# EAGLE library part MAX13237EETE (library microfloat)
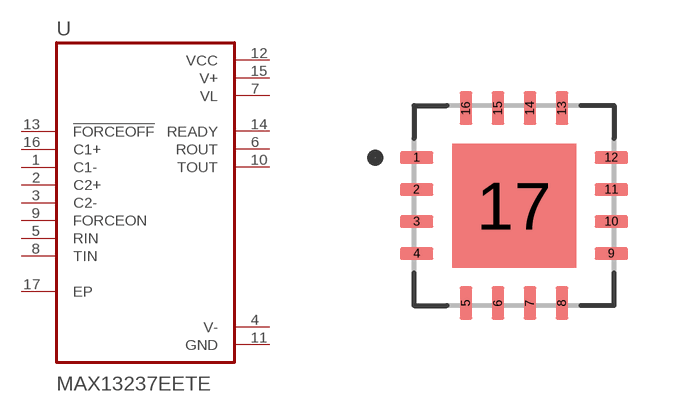
[diagram p13: symbol with the pads of QFN80P500X500X80-17N; footprint QFN80P500X500X80-17N]

Designator prefix U

## MAX13237EETE (DESCRIPTION: 1/1 Transceiver Full RS232 16-TQFN (5x5); DIGI-KEY_PART_NUMBER: MAX13237EETE+TTR-ND; MF: Maxim Integrated; MP: MAX13237EETE; PACKAGE: WQFN-16 Maxim Integrated)  [QFN80P500X500X80-17N]
1  C1-  pas
2  C2+  pas
3  C2-  pas
4  V-  pas
5  RIN  pas
6  ROUT  pas
7  VL  pas
8  TIN  pas
9  FORCEON  pas
10  TOUT  pas
11  GND  pas
12  VCC  pas
13  !FORCEOFF  pas
14  READY  pas
15  V+  pas
16  C1+  pas
17  EP  pas

## Footprint QFN80P500X500X80-17N (pad centres in mm)
smd 0.84 x 0.32: 1 -2.435,1.2; 2 -2.435,0.4; 3 -2.435,-0.4; 4 -2.435,-1.2; 9 2.435,-1.2; 10 2.435,-0.4; 11 2.435,0.4; 12 2.435,1.2
smd 0.32 x 0.84: 5 -1.2,-2.435; 6 -0.4,-2.435; 7 0.4,-2.435; 8 1.2,-2.435; 13 1.2,2.435; 14 0.4,2.435; 15 -0.4,2.435; 16 -1.2,2.435
smd 3.1 x 3.1: 17 0,0